# Altium schematic symbol library MP2723GQC-0000-Z.Schlib: 1 symbol
Pins are listed as number, name and electrical type; pins without a type are passive.

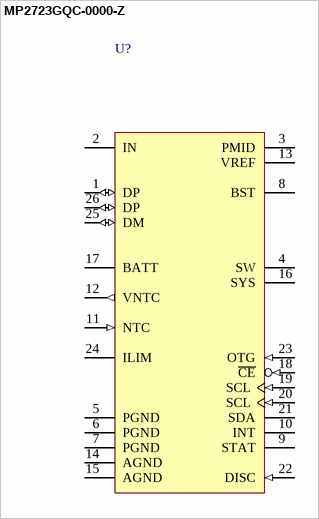
[diagram p0: symbol MP2723GQC-0000-Z]

## MP2723GQC-0000-Z
designator U?
pins: 1 DP (io), 2 IN (power), 3 PMID (power), 4 SW, 5 PGND (power), 6 PGND (power), 7 PGND (power), 8 BST, 9 STAT (oc), 10 INT (oc), 11 NTC (in), 12 VNTC (out), 13 VREF (power), 14 AGND (power), 15 AGND (power), 16 SYS (power), 17 BATT (power), 18 ~{CE} (in), 19 SCL (in), 20 SCL (in), 21 SDA (oc), 22 DISC (in), 23 OTG (in), 24 ILIM, 25 DM (io), 26 DP (io)